# EAGLE library part PESD4USB3UTBS-QX (library PESD4USB3UTBS-QX)
plastic, leadless thin small outline package with SideWettable Flanks (SWF); 10 terminals; 0.5 mm pitch; 2.5 mm x 1 mm x 0.75 mm body Source: Datasheet <https://www.digikey.ph/en/products/detail/nexperia-usa-inc/PESD4USB3UTBS-QX/19109985?msockid=39f1ec84d77b6f4428b7f904d6676eed>
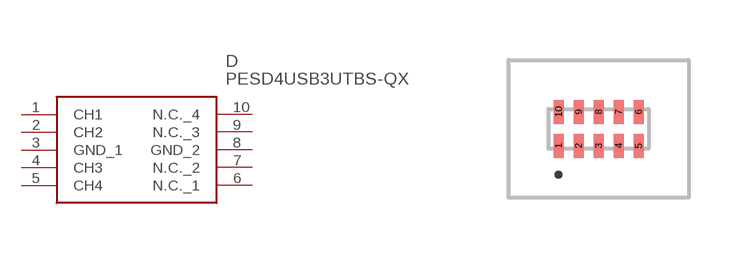
[diagram p0: symbol with the pads of PESD4USB3UTBSQX; footprint PESD4USB3UTBSQX]

Designator prefix D

## PESD4USB3UTBS-QX (Description: plastic, leadless thin small outline package with SideWettable Flanks (SWF); 10 terminals; 0.5 mm pitch; 2.5 mm x 1 mm x 0.75 mm body; Height: 0.8mm; Manufacturer_Name: Nexperia; Manufacturer_Part_Number: PESD4USB3UTBS-QX)  [PESD4USB3UTBSQX]
1  CH1
2  CH2
3  GND_1
4  CH3
5  CH4
6  N.C._1
7  N.C._2
8  GND_2
9  N.C._3
10  N.C._4

## Footprint PESD4USB3UTBSQX (pad centres in mm)
PESD4USB3UTBS-QX-2
smd 0.25 x 0.6: 1 -1,-0.425; 2 -0.5,-0.425; 3 0,-0.425; 4 0.5,-0.425; 5 1,-0.425; 6 1,0.425; 7 0.5,0.425; 8 0,0.425; 9 -0.5,0.425; 10 -1,0.425